# Altium schematic symbol library MAX3232ESE+.Schlib: 1 symbol
Pins are listed as number, name and electrical type; pins without a type are passive.

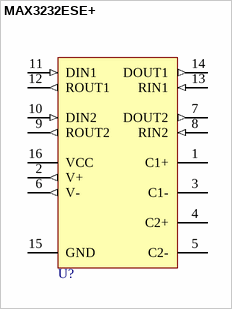
[diagram p0: symbol MAX3232ESE+]

## MAX3232ESE+
designator U?
3.3V dual channel RS-232 line driver and receiver
pins: 1 C1+, 2 V+ (out), 3 C1-, 4 C2+, 5 C2-, 6 V- (out), 7 DOUT2 (out), 8 RIN2 (in), 9 ROUT2 (out), 10 DIN2 (in), 11 DIN1 (in), 12 ROUT1 (out), 13 RIN1 (in), 14 DOUT1 (out), 15 GND (power), 16 VCC (power)